# EAGLE library part EFD25_TRANS (library Radicon)
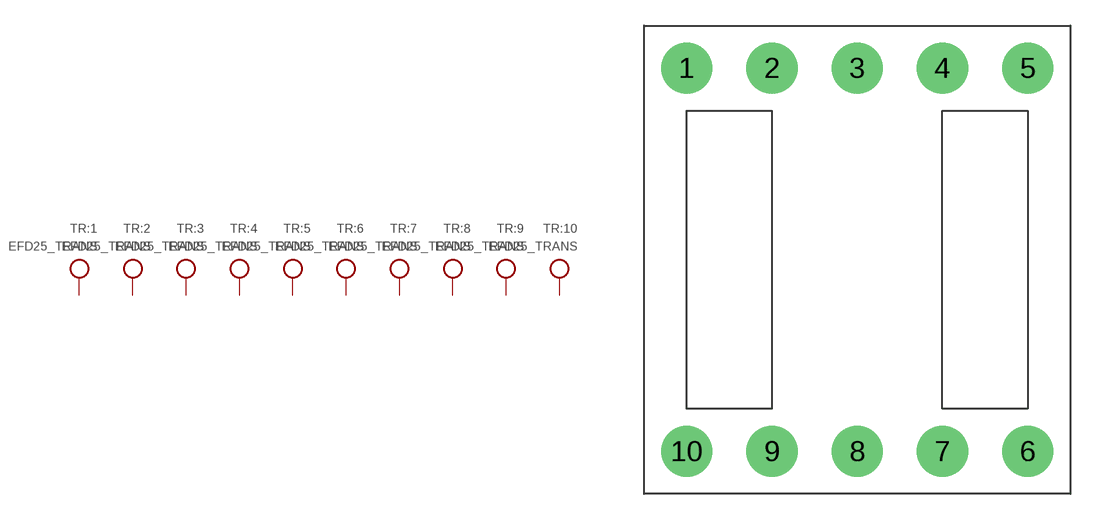
[diagram p43: symbol with the pads of TRANS_EFD25; footprint TRANS_EFD25]

Designator prefix TR; gates :1=TESTPAD :2=TESTPAD :3=TESTPAD :4=TESTPAD :5=TESTPAD :6=TESTPAD :7=TESTPAD :8=TESTPAD :9=TESTPAD :10=TESTPAD

## EFD25_TRANS  [TRANS_EFD25]
1  :1:P$1
2  :2:P$1
3  :3:P$1
4  :4:P$1
5  :5:P$1
6  :6:P$1
7  :7:P$1
8  :8:P$1
9  :9:P$1
10  :10:P$1

## Footprint TRANS_EFD25 (pad centres in mm)
EFD25
drill 1.2 pad 3: 1 -10.16,11.07; 2 -5.16,11.07; 3 -0.16,11.07; 4 4.84,11.07; 5 9.84,11.07; 6 9.84,-11.43; 7 4.84,-11.43; 8 -0.16,-11.43; 9 -5.16,-11.43; 10 -10.16,-11.43